# EAGLE library part 6120XX235221_612008235221 (library 61201021621_Eagle_WR-BHD_rev19b)
WR-BHD 2.54 mm Male Angled Box Header High Temperature KIND PROPERTIES: Pitch 2.54 mm Gender:Male MATERIAL PROPERTIES: Insulator Material:PA6T Insulator Flammability Rating UL94 V-0 Insulator Color:Black Contact Material :Copper Alloy Contact Plating :Gold Contact Type: Stamped GENERAL INFORMATION: Operating Temperature:-40 °C up to +125 °C Compliance:RoHS Working Voltage: 250 V (AC) Withstanding Voltage:500 V (AC) Contact Resistance: 20 mΩ Insulation Resistance:1000 MΩ PACKAGING PROPERTIES Packaging :Tray <https://katalog.we-online.com/media/images/v2/o32907v209%20Family_WR-BHD_6120xx235221.jpg> Details see: https://katalog.we-online.com/en/em/BHD_2_54_MALE_ANGLED_BOX_HEADER_HIGH_TEMPERATURE_6120XX235221 Updated by Yingchun,Shan 2019-10-30 2019 (C) Würth Elektronik
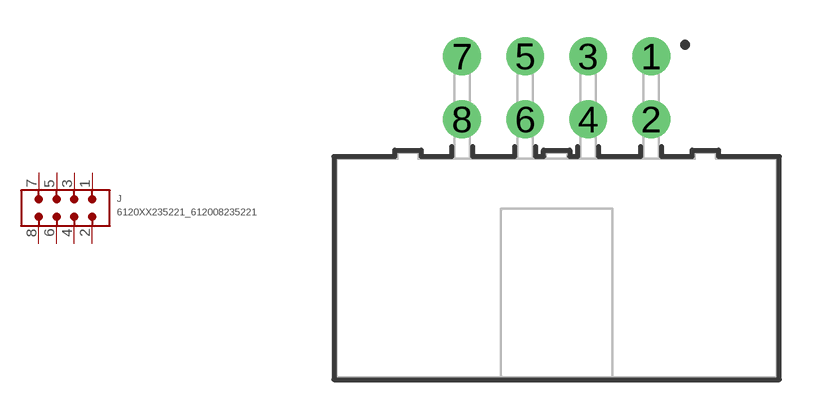
[diagram p29: symbol with the pads of 612008235221; footprint 612008235221]

Designator prefix J

## 6120XX235221_612008235221 (CONTACT-RESISTANCE: 20mOhm; DATASHEET-URL: https://katalog.we-online.com/em/datasheet/612008235221.pdf; GENDER: Male; IR: 3A; L: 17.78mm; MOUNT: THT; PACKAGING: Tray; PART-NUMBER: 612008235221; PINS: 8; PITCH: 2.54mm; TOL-R: max.; TYPE: Angled; WORKING-VOLTAGE: 250V(AC))  [612008235221]
1  1  pas
2  2  pas
3  3  pas
4  4  pas
5  5  pas
6  6  pas
7  7  pas
8  8  pas

## Footprint 612008235221 (pad centres in mm)
WR-BHD 2.54 mm Male Angled Box Header High Temperature,8 Pins
drill 1.02: 1 3.81,8.54; 2 3.81,6; 3 1.27,8.54; 4 1.27,6; 5 -1.27,8.54; 6 -1.27,6; 7 -3.81,8.54; 8 -3.81,6